# EAGLE library part LOC21*P (library anasoft)
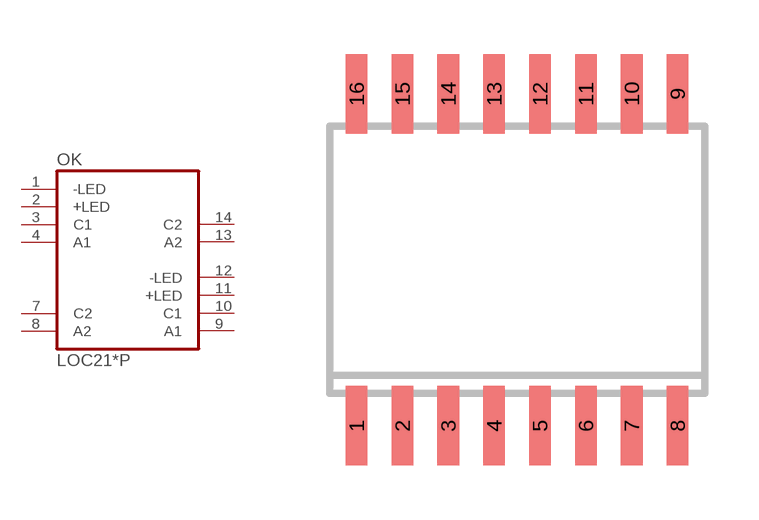
[diagram p9: symbol with the pads of SO16W; footprint SO16W]

Designator prefix OK

## LOC210P, LOC211P  [SO16W]
1  -LED
2  +LED
3  C1
4  A1
7  C2
8  A2
9  A1
10  C1
11  +LED
12  -LED
13  A2
14  C2

## Footprint SO16W (pad centres in mm)
SMALL OUTLINE INTEGRATED CIRCUIT wide body 7.5 mm/JEDEC MS-013AA
smd 0.6 x 2.2: 1 -4.445,-4.6; 2 -3.175,-4.6; 3 -1.905,-4.6; 4 -0.635,-4.6; 5 0.635,-4.6; 6 1.905,-4.6; 7 3.175,-4.6; 8 4.445,-4.6; 9 4.445,4.6; 10 3.175,4.6; 11 1.905,4.6; 12 0.635,4.6; 13 -0.635,4.6; 14 -1.905,4.6; 15 -3.175,4.6; 16 -4.445,4.6